# Altium schematic symbol library SCH - MCU - STM32 - ST MICROELECTRONICS STM32U585AIIXQ UFBGA169.SchLib: 1 symbol
Pins are listed as number, name and electrical type; pins without a type are passive.

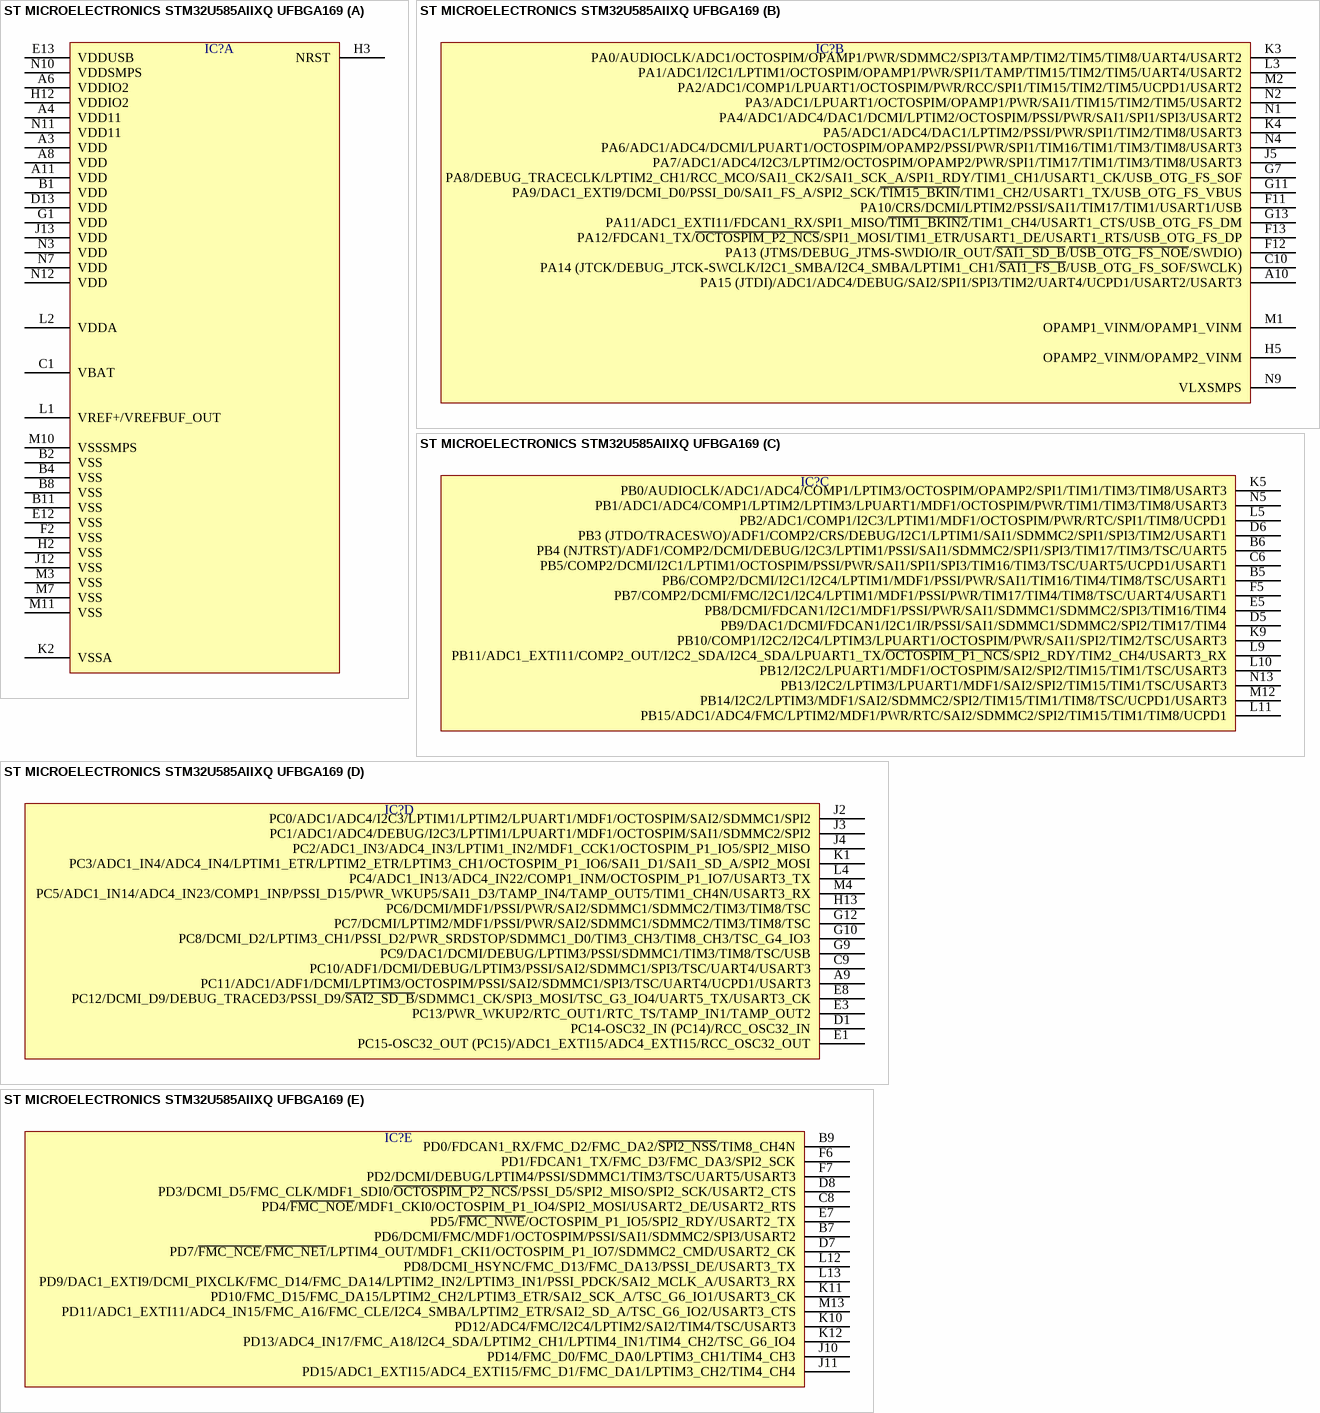
[diagram p0: symbol ST MICROELECTRONICS STM32U585AIIXQ UFBGA169]

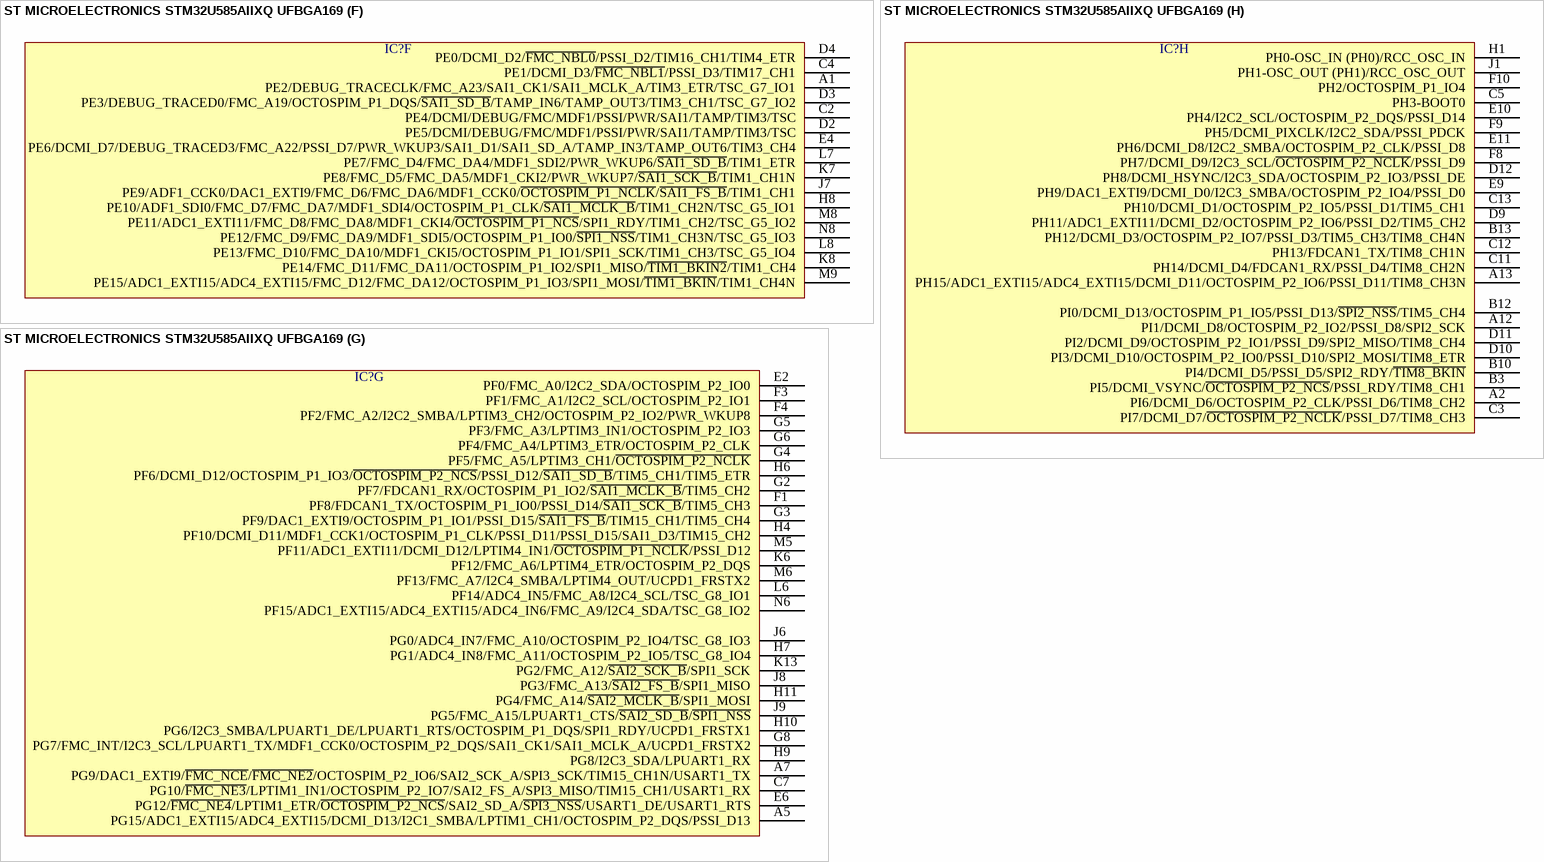
[diagram p1: symbol ST MICROELECTRONICS STM32U585AIIXQ UFBGA169]

## ST MICROELECTRONICS STM32U585AIIXQ UFBGA169
designator IC?  (value not drawn)
part A pins: A3 VDD, A4 VDD11, A6 VDDIO2, A8 VDD, A11 VDD, B1 VDD, B2 VSS, B4 VSS, B8 VSS, B11 VSS, C1 VBAT, D13 VDD, E12 VSS, E13 VDDUSB, F2 VSS, G1 VDD, H2 VSS, H3 NRST, H12 VDDIO2, J12 VSS, J13 VDD, K2 VSSA, L1 VREF+/VREFBUF_OUT, L2 VDDA, M3 VSS, M7 VSS, M10 VSSSMPS, M11 VSS, N3 VDD, N7 VDD, N10 VDDSMPS, N11 VDD11, N12 VDD
part B pins: A10 PA15 (JTDI)/ADC1/ADC4/DEBUG/SAI2/SPI1/SPI3/TIM2/UART4/UCPD1/USART2/USART3, C10 PA14 (JTCK/DEBUG_JTCK-SWCLK/I2C1_SMBA/I2C4_SMBA/LPTIM1_CH1/~{SAI1_FS_B}/USB_OTG_FS_SOF/SWCLK), F11 PA10/CRS/DCMI/LPTIM2/PSSI/SAI1/TIM17/TIM1/USART1/USB, F12 PA13 (JTMS/DEBUG_JTMS-SWDIO/IR_OUT/~{SAI1_SD_B}/~{USB_OTG_FS_NOE}/SWDIO), F13 PA12/FDCAN1_TX/~{OCTOSPIM_P2_NCS}/SPI1_MOSI/TIM1_ETR/USART1_DE/USART1_RTS/USB_OTG_FS_DP, G7 PA8/DEBUG_TRACECLK/LPTIM2_CH1/RCC_MCO/SAI1_CK2/SAI1_SCK_A/SPI1_RDY/TIM1_CH1/USART1_CK/USB_OTG_FS_SOF, G11 PA9/DAC1_EXTI9/DCMI_D0/PSSI_D0/SAI1_FS_A/SPI2_SCK/~{TIM15_BKIN}/TIM1_CH2/USART1_TX/USB_OTG_FS_VBUS, G13 PA11/ADC1_EXTI11/FDCAN1_RX/SPI1_MISO/~{TIM1_BKIN2}/TIM1_CH4/USART1_CTS/USB_OTG_FS_DM, H5 OPAMP2_VINM/OPAMP2_VINM, J5 PA7/ADC1/ADC4/I2C3/LPTIM2/OCTOSPIM/OPAMP2/PWR/SPI1/TIM17/TIM1/TIM3/TIM8/USART3, K3 PA0/AUDIOCLK/ADC1/OCTOSPIM/OPAMP1/PWR/SDMMC2/SPI3/TAMP/TIM2/TIM5/TIM8/UART4/USART2, K4 PA5/ADC1/ADC4/DAC1/LPTIM2/PSSI/PWR/SPI1/TIM2/TIM8/USART3, L3 PA1/ADC1/I2C1/LPTIM1/OCTOSPIM/OPAMP1/PWR/SPI1/TAMP/TIM15/TIM2/TIM5/UART4/USART2, M1 OPAMP1_VINM/OPAMP1_VINM, M2 PA2/ADC1/COMP1/LPUART1/OCTOSPIM/PWR/RCC/SPI1/TIM15/TIM2/TIM5/UCPD1/USART2, N1 PA4/ADC1/ADC4/DAC1/DCMI/LPTIM2/OCTOSPIM/PSSI/PWR/SAI1/SPI1/SPI3/USART2, N2 PA3/ADC1/LPUART1/OCTOSPIM/OPAMP1/PWR/SAI1/TIM15/TIM2/TIM5/USART2, N4 PA6/ADC1/ADC4/DCMI/LPUART1/OCTOSPIM/OPAMP2/PSSI/PWR/SPI1/TIM16/TIM1/TIM3/TIM8/USART3, N9 VLXSMPS
part C pins: B5 PB6/COMP2/DCMI/I2C1/I2C4/LPTIM1/MDF1/PSSI/PWR/SAI1/TIM16/TIM4/TIM8/TSC/USART1, B6 PB4 (NJTRST)/ADF1/COMP2/DCMI/DEBUG/I2C3/LPTIM1/PSSI/SAI1/SDMMC2/SPI1/SPI3/TIM17/TIM3/TSC/UART5, C6 PB5/COMP2/DCMI/I2C1/LPTIM1/OCTOSPIM/PSSI/PWR/SAI1/SPI1/SPI3/TIM16/TIM3/TSC/UART5/UCPD1/USART1, D5 PB9/DAC1/DCMI/FDCAN1/I2C1/IR/PSSI/SAI1/SDMMC1/SDMMC2/SPI2/TIM17/TIM4, D6 PB3 (JTDO/TRACESWO)/ADF1/COMP2/CRS/DEBUG/I2C1/LPTIM1/SAI1/SDMMC2/SPI1/SPI3/TIM2/USART1, E5 PB8/DCMI/FDCAN1/I2C1/MDF1/PSSI/PWR/SAI1/SDMMC1/SDMMC2/SPI3/TIM16/TIM4, F5 PB7/COMP2/DCMI/FMC/I2C1/I2C4/LPTIM1/MDF1/PSSI/PWR/TIM17/TIM4/TIM8/TSC/UART4/USART1, K5 PB0/AUDIOCLK/ADC1/ADC4/COMP1/LPTIM3/OCTOSPIM/OPAMP2/SPI1/TIM1/TIM3/TIM8/USART3, K9 PB10/COMP1/I2C2/I2C4/LPTIM3/LPUART1/OCTOSPIM/PWR/SAI1/SPI2/TIM2/TSC/USART3, L5 PB2/ADC1/COMP1/I2C3/LPTIM1/MDF1/OCTOSPIM/PWR/RTC/SPI1/TIM8/UCPD1, L9 PB11/ADC1_EXTI11/COMP2_OUT/I2C2_SDA/I2C4_SDA/LPUART1_TX/~{OCTOSPIM_P1_NCS}/SPI2_RDY/TIM2_CH4/USART3_RX, L10 PB12/I2C2/LPUART1/MDF1/OCTOSPIM/SAI2/SPI2/TIM15/TIM1/TSC/USART3, L11 PB15/ADC1/ADC4/FMC/LPTIM2/MDF1/PWR/RTC/SAI2/SDMMC2/SPI2/TIM15/TIM1/TIM8/UCPD1, M12 PB14/I2C2/LPTIM3/MDF1/SAI2/SDMMC2/SPI2/TIM15/TIM1/TIM8/TSC/UCPD1/USART3, N5 PB1/ADC1/ADC4/COMP1/LPTIM2/LPTIM3/LPUART1/MDF1/OCTOSPIM/PWR/TIM1/TIM3/TIM8/USART3, N13 PB13/I2C2/LPTIM3/LPUART1/MDF1/SAI2/SPI2/TIM15/TIM1/TSC/USART3
part D pins: A9 PC11/ADC1/ADF1/DCMI/LPTIM3/OCTOSPIM/PSSI/SAI2/SDMMC1/SPI3/TSC/UART4/UCPD1/USART3, C9 PC10/ADF1/DCMI/DEBUG/LPTIM3/PSSI/SAI2/SDMMC1/SPI3/TSC/UART4/USART3, D1 PC14-OSC32_IN (PC14)/RCC_OSC32_IN, E1 PC15-OSC32_OUT (PC15)/ADC1_EXTI15/ADC4_EXTI15/RCC_OSC32_OUT, E3 PC13/PWR_WKUP2/RTC_OUT1/RTC_TS/TAMP_IN1/TAMP_OUT2, E8 PC12/DCMI_D9/DEBUG_TRACED3/PSSI_D9/~{SAI2_SD_B}/SDMMC1_CK/SPI3_MOSI/TSC_G3_IO4/UART5_TX/USART3_CK, G9 PC9/DAC1/DCMI/DEBUG/LPTIM3/PSSI/SDMMC1/TIM3/TIM8/TSC/USB, G10 PC8/DCMI_D2/LPTIM3_CH1/PSSI_D2/PWR_SRDSTOP/SDMMC1_D0/TIM3_CH3/TIM8_CH3/TSC_G4_IO3, G12 PC7/DCMI/LPTIM2/MDF1/PSSI/PWR/SAI2/SDMMC1/SDMMC2/TIM3/TIM8/TSC, H13 PC6/DCMI/MDF1/PSSI/PWR/SAI2/SDMMC1/SDMMC2/TIM3/TIM8/TSC, J2 PC0/ADC1/ADC4/I2C3/LPTIM1/LPTIM2/LPUART1/MDF1/OCTOSPIM/SAI2/SDMMC1/SPI2, J3 PC1/ADC1/ADC4/DEBUG/I2C3/LPTIM1/LPUART1/MDF1/OCTOSPIM/SAI1/SDMMC2/SPI2, J4 PC2/ADC1_IN3/ADC4_IN3/LPTIM1_IN2/MDF1_CCK1/OCTOSPIM_P1_IO5/SPI2_MISO, K1 PC3/ADC1_IN4/ADC4_IN4/LPTIM1_ETR/LPTIM2_ETR/LPTIM3_CH1/OCTOSPIM_P1_IO6/SAI1_D1/SAI1_SD_A/SPI2_MOSI, L4 PC4/ADC1_IN13/ADC4_IN22/COMP1_INM/OCTOSPIM_P1_IO7/USART3_TX, M4 PC5/ADC1_IN14/ADC4_IN23/COMP1_INP/PSSI_D15/PWR_WKUP5/SAI1_D3/TAMP_IN4/TAMP_OUT5/TIM1_CH4N/USART3_RX
part E pins: B7 PD6/DCMI/FMC/MDF1/OCTOSPIM/PSSI/SAI1/SDMMC2/SPI3/USART2, B9 PD0/FDCAN1_RX/FMC_D2/FMC_DA2/~{SPI2_NSS}/TIM8_CH4N, C8 PD4/~{FMC_NOE}/MDF1_CKI0/OCTOSPIM_P1_IO4/SPI2_MOSI/USART2_DE/USART2_RTS, D7 PD7/~{FMC_NCE}/~{FMC_NE1}/LPTIM4_OUT/MDF1_CKI1/OCTOSPIM_P1_IO7/SDMMC2_CMD/USART2_CK, D8 PD3/DCMI_D5/FMC_CLK/MDF1_SDI0/~{OCTOSPIM_P2_NCS}/PSSI_D5/SPI2_MISO/SPI2_SCK/USART2_CTS, E7 PD5/~{FMC_NWE}/OCTOSPIM_P1_IO5/SPI2_RDY/USART2_TX, F6 PD1/FDCAN1_TX/FMC_D3/FMC_DA3/SPI2_SCK, F7 PD2/DCMI/DEBUG/LPTIM4/PSSI/SDMMC1/TIM3/TSC/UART5/USART3, J10 PD14/FMC_D0/FMC_DA0/LPTIM3_CH1/TIM4_CH3, J11 PD15/ADC1_EXTI15/ADC4_EXTI15/FMC_D1/FMC_DA1/LPTIM3_CH2/TIM4_CH4, K10 PD12/ADC4/FMC/I2C4/LPTIM2/SAI2/TIM4/TSC/USART3, K11 PD10/FMC_D15/FMC_DA15/LPTIM2_CH2/LPTIM3_ETR/SAI2_SCK_A/TSC_G6_IO1/USART3_CK, K12 PD13/ADC4_IN17/FMC_A18/I2C4_SDA/LPTIM2_CH1/LPTIM4_IN1/TIM4_CH2/TSC_G6_IO4, L12 PD8/DCMI_HSYNC/FMC_D13/FMC_DA13/PSSI_DE/USART3_TX, L13 PD9/DAC1_EXTI9/DCMI_PIXCLK/FMC_D14/FMC_DA14/LPTIM2_IN2/LPTIM3_IN1/PSSI_PDCK/SAI2_MCLK_A/USART3_RX, M13 PD11/ADC1_EXTI11/ADC4_IN15/FMC_A16/FMC_CLE/I2C4_SMBA/LPTIM2_ETR/SAI2_SD_A/TSC_G6_IO2/USART3_CTS
part F pins: A1 PE2/DEBUG_TRACECLK/FMC_A23/SAI1_CK1/SAI1_MCLK_A/TIM3_ETR/TSC_G7_IO1, C2 PE4/DCMI/DEBUG/FMC/MDF1/PSSI/PWR/SAI1/TAMP/TIM3/TSC, C4 PE1/DCMI_D3/~{FMC_NBL1}/PSSI_D3/TIM17_CH1, D2 PE5/DCMI/DEBUG/FMC/MDF1/PSSI/PWR/SAI1/TAMP/TIM3/TSC, D3 PE3/DEBUG_TRACED0/FMC_A19/OCTOSPIM_P1_DQS/~{SAI1_SD_B}/TAMP_IN6/TAMP_OUT3/TIM3_CH1/TSC_G7_IO2, D4 PE0/DCMI_D2/~{FMC_NBL0}/PSSI_D2/TIM16_CH1/TIM4_ETR, E4 PE6/DCMI_D7/DEBUG_TRACED3/FMC_A22/PSSI_D7/PWR_WKUP3/SAI1_D1/SAI1_SD_A/TAMP_IN3/TAMP_OUT6/TIM3_CH4, H8 PE10/ADF1_SDI0/FMC_D7/FMC_DA7/MDF1_SDI4/OCTOSPIM_P1_CLK/~{SAI1_MCLK_B}/TIM1_CH2N/TSC_G5_IO1, J7 PE9/ADF1_CCK0/DAC1_EXTI9/FMC_D6/FMC_DA6/MDF1_CCK0/~{OCTOSPIM_P1_NCLK}/~{SAI1_FS_B}/TIM1_CH1, K7 PE8/FMC_D5/FMC_DA5/MDF1_CKI2/PWR_WKUP7/~{SAI1_SCK_B}/TIM1_CH1N, K8 PE14/FMC_D11/FMC_DA11/OCTOSPIM_P1_IO2/SPI1_MISO/~{TIM1_BKIN2}/TIM1_CH4, L7 PE7/FMC_D4/FMC_DA4/MDF1_SDI2/PWR_WKUP6/~{SAI1_SD_B}/TIM1_ETR, L8 PE13/FMC_D10/FMC_DA10/MDF1_CKI5/OCTOSPIM_P1_IO1/SPI1_SCK/TIM1_CH3/TSC_G5_IO4, M8 PE11/ADC1_EXTI11/FMC_D8/FMC_DA8/MDF1_CKI4/~{OCTOSPIM_P1_NCS}/SPI1_RDY/TIM1_CH2/TSC_G5_IO2, M9 PE15/ADC1_EXTI15/ADC4_EXTI15/FMC_D12/FMC_DA12/OCTOSPIM_P1_IO3/SPI1_MOSI/~{TIM1_BKIN}/TIM1_CH4N, N8 PE12/FMC_D9/FMC_DA9/MDF1_SDI5/OCTOSPIM_P1_IO0/~{SPI1_NSS}/TIM1_CH3N/TSC_G5_IO3
part G pins: A5 PG15/ADC1_EXTI15/ADC4_EXTI15/DCMI_D13/I2C1_SMBA/LPTIM1_CH1/OCTOSPIM_P2_DQS/PSSI_D13, A7 PG9/DAC1_EXTI9/~{FMC_NCE}/~{FMC_NE2}/OCTOSPIM_P2_IO6/SAI2_SCK_A/SPI3_SCK/TIM15_CH1N/USART1_TX, C7 PG10/~{FMC_NE3}/LPTIM1_IN1/OCTOSPIM_P2_IO7/SAI2_FS_A/SPI3_MISO/TIM15_CH1/USART1_RX, E2 PF0/FMC_A0/I2C2_SDA/OCTOSPIM_P2_IO0, E6 PG12/~{FMC_NE4}/LPTIM1_ETR/~{OCTOSPIM_P2_NCS}/SAI2_SD_A/~{SPI3_NSS}/USART1_DE/USART1_RTS, F1 PF8/FDCAN1_TX/OCTOSPIM_P1_IO0/PSSI_D14/~{SAI1_SCK_B}/TIM5_CH3, F3 PF1/FMC_A1/I2C2_SCL/OCTOSPIM_P2_IO1, F4 PF2/FMC_A2/I2C2_SMBA/LPTIM3_CH2/OCTOSPIM_P2_IO2/PWR_WKUP8, G2 PF7/FDCAN1_RX/OCTOSPIM_P1_IO2/~{SAI1_MCLK_B}/TIM5_CH2, G3 PF9/DAC1_EXTI9/OCTOSPIM_P1_IO1/PSSI_D15/~{SAI1_FS_B}/TIM15_CH1/TIM5_CH4, G4 PF5/FMC_A5/LPTIM3_CH1/~{OCTOSPIM_P2_NCLK}, G5 PF3/FMC_A3/LPTIM3_IN1/OCTOSPIM_P2_IO3, G6 PF4/FMC_A4/LPTIM3_ETR/OCTOSPIM_P2_CLK, G8 PG7/FMC_INT/I2C3_SCL/LPUART1_TX/MDF1_CCK0/OCTOSPIM_P2_DQS/SAI1_CK1/SAI1_MCLK_A/UCPD1_FRSTX2, H4 PF10/DCMI_D11/MDF1_CCK1/OCTOSPIM_P1_CLK/PSSI_D11/PSSI_D15/SAI1_D3/TIM15_CH2, H6 PF6/DCMI_D12/OCTOSPIM_P1_IO3/~{OCTOSPIM_P2_NCS}/PSSI_D12/~{SAI1_SD_B}/TIM5_CH1/TIM5_ETR, H7 PG1/ADC4_IN8/FMC_A11/OCTOSPIM_P2_IO5/TSC_G8_IO4, H9 PG8/I2C3_SDA/LPUART1_RX, H10 PG6/I2C3_SMBA/LPUART1_DE/LPUART1_RTS/OCTOSPIM_P1_DQS/SPI1_RDY/UCPD1_FRSTX1, H11 PG4/FMC_A14/~{SAI2_MCLK_B}/SPI1_MOSI, J6 PG0/ADC4_IN7/FMC_A10/OCTOSPIM_P2_IO4/TSC_G8_IO3, J8 PG3/FMC_A13/~{SAI2_FS_B}/SPI1_MISO, J9 PG5/FMC_A15/LPUART1_CTS/~{SAI2_SD_B}/~{SPI1_NSS}, K6 PF12/FMC_A6/LPTIM4_ETR/OCTOSPIM_P2_DQS, K13 PG2/FMC_A12/~{SAI2_SCK_B}/SPI1_SCK, L6 PF14/ADC4_IN5/FMC_A8/I2C4_SCL/TSC_G8_IO1, M5 PF11/ADC1_EXTI11/DCMI_D12/LPTIM4_IN1/~{OCTOSPIM_P1_NCLK}/PSSI_D12, M6 PF13/FMC_A7/I2C4_SMBA/LPTIM4_OUT/UCPD1_FRSTX2, N6 PF15/ADC1_EXTI15/ADC4_EXTI15/ADC4_IN6/FMC_A9/I2C4_SDA/TSC_G8_IO2
part H pins: A2 PI6/DCMI_D6/OCTOSPIM_P2_CLK/PSSI_D6/TIM8_CH2, A12 PI1/DCMI_D8/OCTOSPIM_P2_IO2/PSSI_D8/SPI2_SCK, A13 PH15/ADC1_EXTI15/ADC4_EXTI15/DCMI_D11/OCTOSPIM_P2_IO6/PSSI_D11/TIM8_CH3N, B3 PI5/DCMI_VSYNC/~{OCTOSPIM_P2_NCS}/PSSI_RDY/TIM8_CH1, B10 PI4/DCMI_D5/PSSI_D5/SPI2_RDY/~{TIM8_BKIN}, B12 PI0/DCMI_D13/OCTOSPIM_P1_IO5/PSSI_D13/~{SPI2_NSS}/TIM5_CH4, B13 PH12/DCMI_D3/OCTOSPIM_P2_IO7/PSSI_D3/TIM5_CH3/TIM8_CH4N, C3 PI7/DCMI_D7/~{OCTOSPIM_P2_NCLK}/PSSI_D7/TIM8_CH3, C5 PH3-BOOT0, C11 PH14/DCMI_D4/FDCAN1_RX/PSSI_D4/TIM8_CH2N, C12 PH13/FDCAN1_TX/TIM8_CH1N, C13 PH10/DCMI_D1/OCTOSPIM_P2_IO5/PSSI_D1/TIM5_CH1, D9 PH11/ADC1_EXTI11/DCMI_D2/OCTOSPIM_P2_IO6/PSSI_D2/TIM5_CH2, D10 PI3/DCMI_D10/OCTOSPIM_P2_IO0/PSSI_D10/SPI2_MOSI/TIM8_ETR, D11 PI2/DCMI_D9/OCTOSPIM_P2_IO1/PSSI_D9/SPI2_MISO/TIM8_CH4, D12 PH8/DCMI_HSYNC/I2C3_SDA/OCTOSPIM_P2_IO3/PSSI_DE, E9 PH9/DAC1_EXTI9/DCMI_D0/I2C3_SMBA/OCTOSPIM_P2_IO4/PSSI_D0, E10 PH4/I2C2_SCL/OCTOSPIM_P2_DQS/PSSI_D14, E11 PH6/DCMI_D8/I2C2_SMBA/OCTOSPIM_P2_CLK/PSSI_D8, F8 PH7/DCMI_D9/I2C3_SCL/~{OCTOSPIM_P2_NCLK}/PSSI_D9, F9 PH5/DCMI_PIXCLK/I2C2_SDA/PSSI_PDCK, F10 PH2/OCTOSPIM_P1_IO4, H1 PH0-OSC_IN (PH0)/RCC_OSC_IN, J1 PH1-OSC_OUT (PH1)/RCC_OSC_OUT